# EAGLE library part DX4R005HJ5R2000 (library USB connector)
CONN RCPT USB2.0 MICRO B SMD R/A Manufacturer's datasheet <https://www.jae.com/direct/topics/topics_file_download/topics_id=64360&ext_no=08&_lang=en>
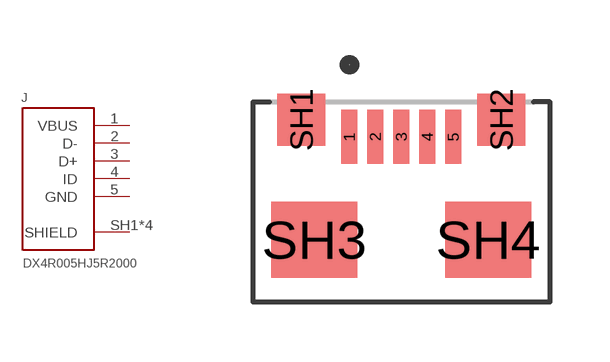
[diagram p0: symbol with the pads of DX4R005HJ5R2000; footprint DX4R005HJ5R2000]

Designator prefix J

## DX4R005HJ5R2000 (CREATED_BY: PCBLayout.com; DIGIKEY_PARTNO: 670-2674-2-ND; MANUFACTURER: JAE Electronics; MPN: DX4R005HJ5R2000)  [DX4R005HJ5R2000]
1  VBUS  pas
2  D-  pas
3  D+  pas
4  ID  pas
5  GND  pas
SH1  SHIELD  pwr
SH2  SHIELD  pwr
SH3  SHIELD  pwr
SH4  SHIELD  pwr

## Footprint DX4R005HJ5R2000 (pad centres in mm)
smd 0.4 x 1.35: 1 -1.3,4.125; 2 -0.65,4.125; 3 0,4.125; 4 0.65,4.125; 5 1.3,4.125
smd 1.2 x 1.3: SH1 -2.5,4.55; SH2 2.5,4.55
smd 2.15 x 1.9: SH3 -2.175,1.55; SH4 2.175,1.55